# Altium footprint library Resistors.PcbLib: 33 footprints (part 3 of 3)
Each footprint in its own frame and in the unit in brackets; x right, y up, seen from the top. Pads: shape width x height; smd on the part's side, far side on the other; paste and mask are expansions set on the pad; w line width, h text height; cw(c..) or ccw(c..) is an arc to the next point about the centre after c.
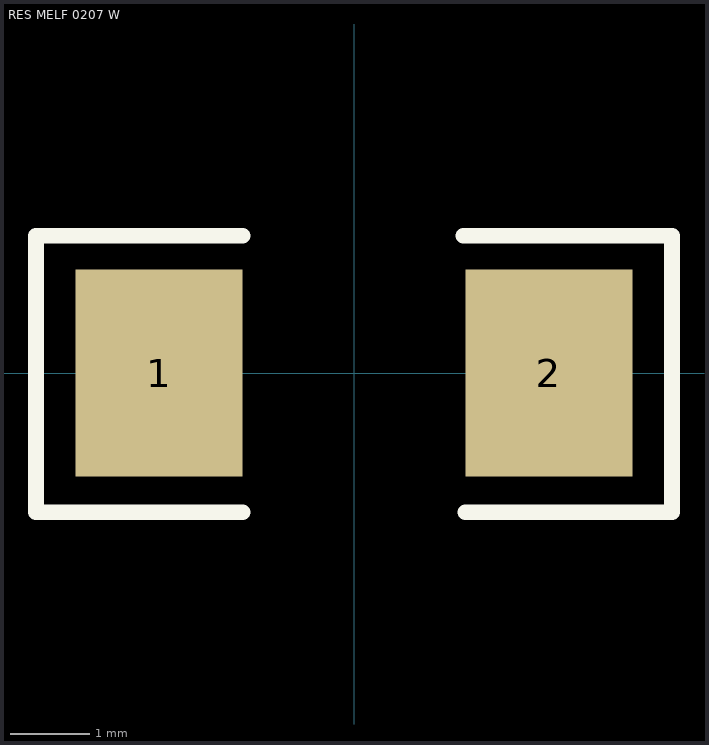
[diagram p2: the footprint, top view; thin cyan lines are the x and y axes]

## RES MELF 0207 W [mm] "MELF resistor 0207 wave soldering"
pads (2):
  rect 2.1x2.6 smd: 1(-2.45,0) 2(2.45,0)
Top Overlay:
  lines w0.2: -1.4,-1.75 -4,-1.75 -4,1.725 -1.4,1.725 ; 1.375,1.725 4,1.725 4,-1.75 1.4,-1.75
3D body "RESMELF0207.stp": height 2.26, standoff 0, extent -2.9,-1.125 2.9,1.131